# EAGLE library part 057-014- (library con-panduit)
CONNECTOR 10-pin series 057 contact pc board low profile headers
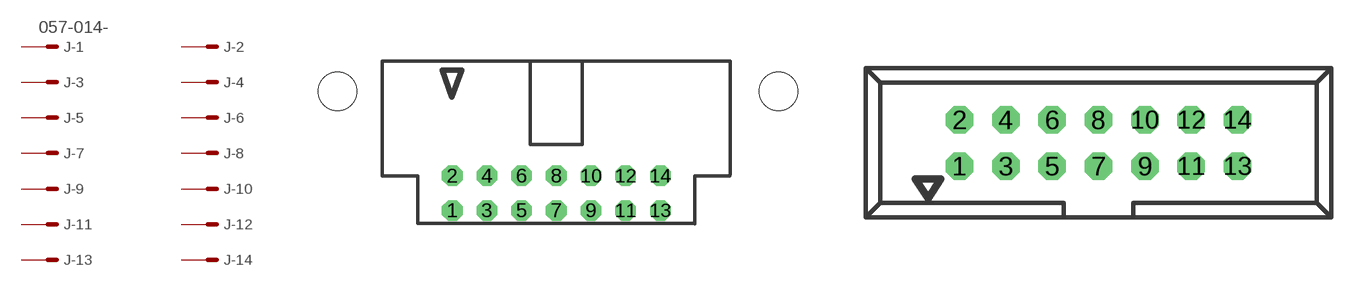
[diagram p8: symbol with the pads of 057-014-0; footprints 057-014-0, 057-014-1]

Designator prefix J; gates -1=MV -2=M -3=M -4=M -5=M -6=M -7=M -8=M -9=M -10=M -11=M -12=M -13=M -14=M

## 057-014-0  [057-014-0]
1  -1:S  pas
2  -2:S  pas
3  -3:S  pas
4  -4:S  pas
5  -5:S  pas
6  -6:S  pas
7  -7:S  pas
8  -8:S  pas
9  -9:S  pas
10  -10:S  pas
11  -11:S  pas
12  -12:S  pas
13  -13:S  pas
14  -14:S  pas

## 057-014-1  [057-014-1]
Pads as for 057-014-0

## Footprint 057-014-0 (pad centres in mm)
CONNECTOR series 057 contact pc board low profile headers angled
drill 1 octagon: 1 -7.62,-5.08; 2 -7.62,-2.54; 3 -5.08,-5.08; 4 -5.08,-2.54; 5 -2.54,-5.08; 6 -2.54,-2.54; 7 0,-5.08; 8 0,-2.54; 9 2.54,-5.08; 10 2.54,-2.54; 11 5.08,-5.08; 12 5.08,-2.54; 13 7.62,-5.08; 14 7.62,-2.54
hole 2.8 at -16.02,3.66
hole 2.8 at 16.27,3.66

## Footprint 057-014-1 (pad centres in mm)
CONNECTOR series 057 contact pc board low profile headers straight
drill 1 octagon: 1 -7.62,-1.27; 2 -7.62,1.27; 3 -5.08,-1.27; 4 -5.08,1.27; 5 -2.54,-1.27; 6 -2.54,1.27; 7 0,-1.27; 8 0,1.27; 9 2.54,-1.27; 10 2.54,1.27; 11 5.08,-1.27; 12 5.08,1.27; 13 7.62,-1.27; 14 7.62,1.27